# Altium footprint library Devices.PcbLib: 27 footprints (part 2 of 2)
Each footprint in its own frame and in the unit in brackets; x right, y up, seen from the top. Pads: shape width x height; smd on the part's side, far side on the other; paste and mask are expansions set on the pad; w line width, h text height; cw(c..) or ccw(c..) is an arc to the next point about the centre after c.
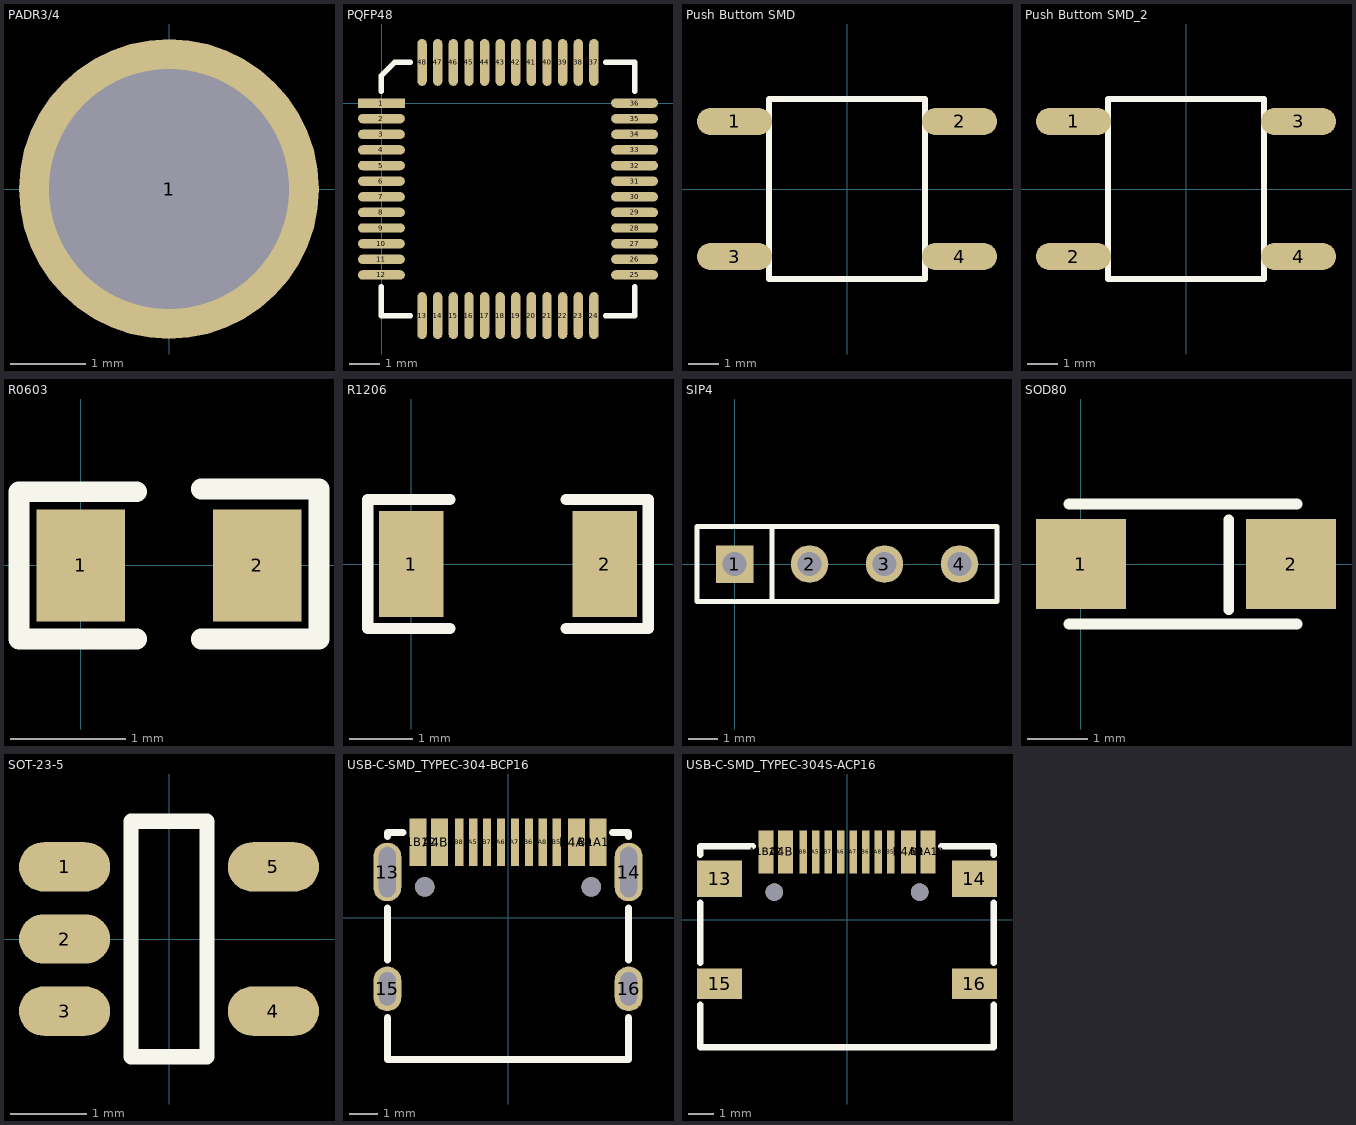
[diagram p1: the footprints below, top view; thin cyan lines are the x and y axes]

## PADR3/4 [mm]
pads (1):
  round 4 hole 3.2: 1(0,0)

## PQFP48 [mil]
height 62.99
pads (48):
  rect 60x12 smd: 1(-0.17,0.2)
  oval 60x12 smd: 2(-0.17,-19.8) 3(-0.17,-39.8) 4(-0.17,-59.8) 5(-0.17,-79.8) 6(-0.17,-99.8) 7(-0.17,-119.8) 8(-0.17,-139.8) 9(-0.17,-159.8) 10(-0.17,-179.8) 11(-0.17,-199.8) 12(-0.17,-219.8) 25(323.83,-219.8) 26(323.83,-199.8) 27(323.83,-179.8) 28(323.83,-159.8) 29(323.83,-139.8) 30(323.83,-119.8) 31(323.83,-99.8) 32(323.83,-79.8) 33(323.83,-59.8) 34(323.83,-39.8) 35(323.83,-19.8) 36(323.83,0.2)
  oval 12x60 smd: 13(51.83,-271.8) 14(71.83,-271.8) 15(91.83,-271.8) 16(111.83,-271.8) 17(131.83,-271.8) 18(151.83,-271.8) 19(171.83,-271.8) 20(191.83,-271.8) 21(211.83,-271.8) 22(231.83,-271.8) 23(251.83,-271.8) 24(271.83,-271.8) 37(271.83,52.2) 38(251.83,52.2) 39(231.83,52.2) 40(211.83,52.2) 41(191.83,52.2) 42(171.83,52.2) 43(151.83,52.2) 44(131.83,52.2) 45(111.83,52.2) 46(91.83,52.2) 47(71.83,52.2) 48(51.83,52.2)
Top Overlay:
  lines w7: -0.17,-234.8 -0.17,-271.8 36.83,-271.8 ; -0.17,15.2 -0.17,35.2 16.83,52.2 36.83,52.2 ; 286.83,-271.8 323.83,-271.8 323.83,-234.8 ; 286.83,52.2 323.83,52.2 323.83,15.2
3D body "TQFP-48.STEP": height 57.09, standoff -0.39, extent -15.33,-286.17 339,68.17

## Push Buttom SMD [mm]
height 5
pads (4):
  oval 2.5x0.9 smd: 1(-3.75,2.25) 2(3.75,2.25) 3(-3.75,-2.25) 4(3.75,-2.25)
Top Overlay:
  lines w0.2: -2.6,-3 2.6,-3 2.6,3 -2.6,3 -2.6,-3
3D body "User Library-PTS645SL50SMTR92-LFS.STEP": height 5, standoff 0, extent -4.5,-3 4.5,3

## Push Buttom SMD_2 [mm]
height 5
pads (4):
  oval 2.5x0.9 smd: 1(-3.75,2.25) 2(-3.75,-2.25) 3(3.75,2.25) 4(3.75,-2.25)
Top Overlay:
  lines w0.2: -2.6,-3 2.6,-3 2.6,3 -2.6,3 -2.6,-3
3D body "User Library-PTS645SL50SMTR92-LFS.STEP": height 5, standoff 0, extent -4.5,-3 4.5,3

## R0603 [mil]
pads (2):
  rect 30x38 smd: 1(0,0) 2(60,0)
Top Overlay:
  lines w7: 19,-25 -21,-25 -21,25 19,25 ; 41,-25 81,-25 81,26 41,26
3D body "r0603.stp": height 21.65, standoff 0, extent -4.44,-18.69 64.45,18.71

## R1206 [mil]
pads (2):
  rect 40x66 smd: 1(0,0) 2(120,0)
Top Overlay:
  lines w7: 24,-40 -27,-40 -27,40 24,40 ; 96,-40 147,-40 147,40 96,40
3D body "r1206.stp": height 27.56, standoff 0, extent -3.97,-32.47 123.98,32.49

## SIP4 [mil]
pads (4):
  rect 50x50 hole 32: 1(0,0)
  round 50 hole 32: 2(100,0) 3(200,0) 4(300,0)
Top Overlay:
  lines w7: 50,-50 50,50 ; -50,-50 350,-50 350,50 -50,50 -50,-50
3D body "65781.stp": height 337.4, standoff -116.93, extent -50.39,-49.99 349.61,50.01

## SOD80 [mm]
pads (2):
  rect 1.5x1.5 smd: 1(0,0) 2(3.5,0)
Top Overlay:
  lines w0.178: -0.2,-1 3.6,-1 ; -0.2,1 3.6,1 ; 2.464,-0.762 2.464,0.737
3D body "SOD80.STEP": height 1.6, standoff 0, extent -0.021,-0.813 3.679,0.787

## SOT-23-5 [mm] "SOT23, 5-Leads, Body 2.90x2.79mm, Pitch 0.95mm, IPC Medium Density"
height 1.3
pads (5):
  oval 1.2x0.65 smd: 1(-1.375,0.95) 2(-1.375,0) 3(-1.375,-0.95) 4(1.375,-0.95) 5(1.375,0.95)
Top Overlay:
  lines w0.2: -0.5,-1.55 -0.5,1.55 0.5,1.55 0.5,-1.55 -0.5,-1.55
3D body "sot-23-5_asm.stp": height 1.09, standoff 0, extent -1.35,-1.45 1.351,1.45

## USB-C-SMD_TYPEC-304-BCP16 [mm]
pads (18):
  oval 1x2.1 hole 0.6 slot 1.8 at 90 deg: 13(-4.32,1.633) 14(4.32,1.633)
  oval 1x1.6 hole 0.6 slot 1.2 at 90 deg: 15(-4.32,-2.547) 16(4.32,-2.547)
  rect 0.6x1.7 smd: A1B12(-3.225,2.7) A4B9(-2.45,2.7) B1A12(3.22,2.7) B4A9(2.45,2.7)
  rect 0.3x1.7 smd: A5(-1.25,2.7) A6(-0.25,2.7) A7(0.25,2.7) A8(1.25,2.7) B5(1.75,2.7) B6(0.75,2.7) B7(-0.75,2.7) B8(-1.75,2.7)
  round 0.7 hole 0.7 unplated: ""(-2.98,1.102) ""(2.98,1.102)
Top Overlay:
  lines w0.254: -4.318,-3.579 -4.318,-5.08 4.318,-5.08 4.318,-3.579 ; -4.318,-1.516 -4.318,0.351 ; -4.318,2.914 -4.318,3.048 -3.756,3.048 ; 3.751,3.048 4.318,3.048 4.318,2.914 ; 4.318,-1.516 4.318,0.351

## USB-C-SMD_TYPEC-304S-ACP16 [mm]
pads (18):
  rect 1.8x1.45 smd: 13(-5.07,1.632) 14(5.07,1.632)
  rect 1.8x1.2 smd: 15(-5.07,-2.548) 16(5.07,-2.548)
  rect 0.6x1.7 smd: A1B12(-3.225,2.7) A4B9(-2.45,2.7) B1A12(3.22,2.7) B4A9(2.45,2.7)
  rect 0.3x1.7 smd: A5(-1.25,2.7) A6(-0.25,2.7) A7(0.25,2.7) A8(1.25,2.7) B5(1.75,2.7) B6(0.75,2.7) B7(-0.75,2.7) B8(-1.75,2.7)
  round 0.7 hole 0.7 unplated: ""(-2.89,1.102) ""(2.89,1.102)
Top Overlay:
  lines w0.254: -5.842,-3.379 -5.842,-5.08 5.715,-5.08 5.842,-5.08 5.842,-3.379 ; -5.842,-1.716 -5.842,0.676 ; -5.842,2.589 -5.842,2.921 -3.81,2.921 ; -3.937,2.921 -3.756,2.921 ; 3.751,2.921 5.842,2.921 5.842,2.589 ; 5.842,-1.716 5.842,0.676